# EAGLE library part BSS138DW (library KwanSystems)
Transistor for bi-directional level-shifting See here <http://ics.nxp.com/support/documents/interface/pdf/an97055.pdf> for details . Two transistors in this package, can be used for two bidirectional channels.
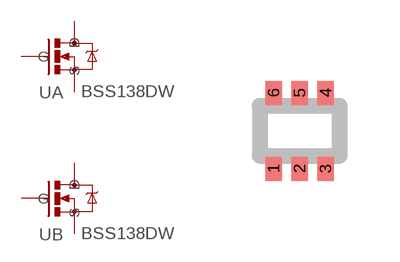
[diagram p34: symbol with the pads of SOT-363; footprint SOT-363]

Designator prefix -; gates A=MOSFET_NCHANNEL B=MOSFET_NCHANNEL

## BSS138DW  [SOT-363]
1  A:S  pas
2  A:G  pas
3  B:D  pas
4  B:S  pas
5  B:G  pas
6  A:D  pas

## Footprint SOT-363 (pad centres in mm)
smd 0.42 x 0.6: 1 -0.65,-0.95; 2 0,-0.95; 3 0.65,-0.95; 4 0.65,0.95; 5 0,0.95; 6 -0.65,0.95